# Altium footprint library ESD7008MUTAG.PcbLib: 1 footprints
Each footprint in its own frame and in the unit in brackets; x right, y up, seen from the top. Pads: shape width x height; smd on the part's side, far side on the other; paste and mask are expansions set on the pad; w line width, h text height; cw(c..) or ccw(c..) is an arc to the next point about the centre after c.
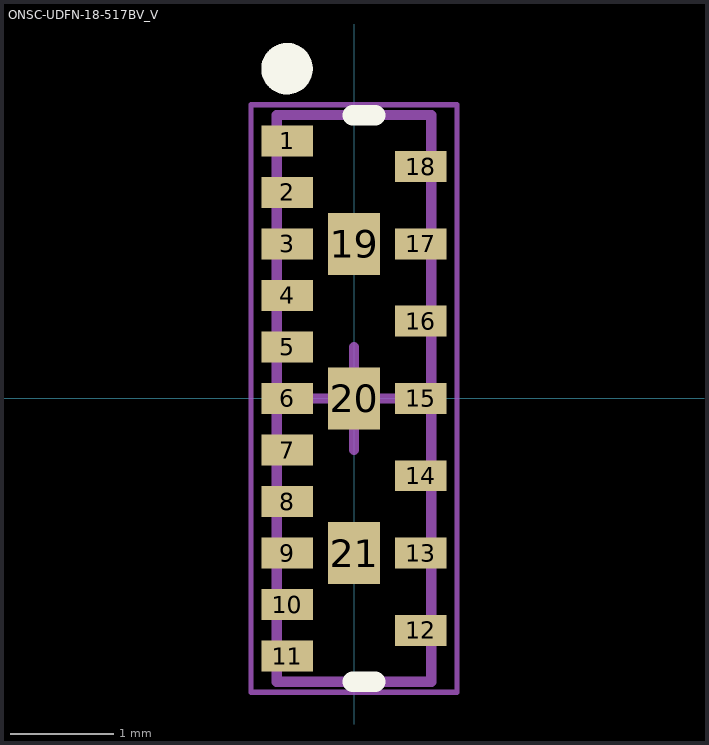
[diagram p0: the footprint, top view; thin cyan lines are the x and y axes]

## ONSC-UDFN-18-517BV_V [mm] "SON, 18-Leads, Body 5.5x1.5mm"
height 0.55
pads (21):
  rect 0.5x0.3 smd: 1(-0.65,2.5) 2(-0.65,2) 3(-0.65,1.5) 4(-0.65,1) 5(-0.65,0.5) 6(-0.65,0) 7(-0.65,-0.5) 8(-0.65,-1) 9(-0.65,-1.5) 10(-0.65,-2) 11(-0.65,-2.5) 12(0.65,-2.25) 13(0.65,-1.5) 14(0.65,-0.75) 15(0.65,0) 16(0.65,0.75) 17(0.65,1.5) 18(0.65,2.25)
  rect 0.5x0.6 smd: 19(0,1.5) 20(0,0) 21(0,-1.5)
Top Overlay:
  circle w0.25: c-0.65,3.2 r0.125
  lines w0.2: -0.013,-2.75 0.206,-2.75 ; -0.013,2.75 0.206,2.75
Mechanical 13:
  lines w0.1: -0.75,-2.75 -0.75,2.75 0.75,2.75 0.75,-2.75 -0.75,-2.75
Mechanical 15:
  lines w0.05: -1,-2.85 -1,2.85 1,2.85 1,-2.85 -1,-2.85
  lines w0.1: -0.5,0 0.5,0 ; 0,-0.5 0,0.5
3D body: height 0.55, standoff 0, extent -0.75,-2.75 0.75,2.75